# Altium footprint library SAM4N_Xplained_Pro.PcbLib: 42 footprints (part 3 of 3)
Each footprint in its own frame and in the unit in brackets; x right, y up, seen from the top. Pads: shape width x height; smd on the part's side, far side on the other; paste and mask are expansions set on the pad; w line width, h text height; cw(c..) or ccw(c..) is an arc to the next point about the centre after c.
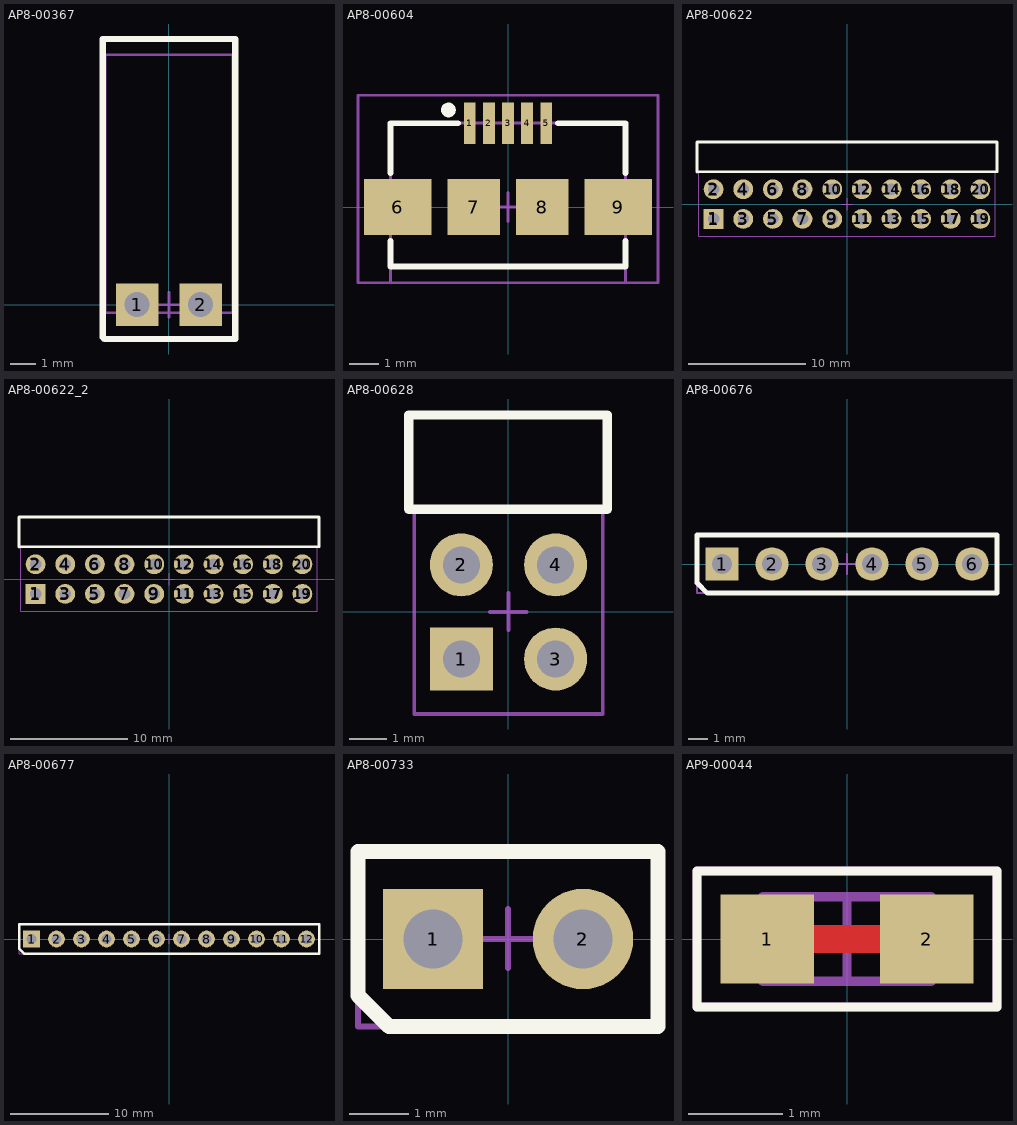
[diagram p2: the footprints below, top view; thin cyan lines are the x and y axes]

## AP8-00367 [mm]
pads (2):
  rect 1.7x1.7 / inner round 1.7 / far side round 1.7 hole 1: 1(-1.27,0) 2(1.27,0)
Top Overlay:
  lines w0.254: -2.645,-1.3 -2.57,-1.375 2.655,-1.375 2.655,10.6 -2.645,10.6 -2.645,-1.3
Top Paste:
  rectangle: -2.12,-0.85 -0.42,0.85
  rectangle: 0.42,-0.85 2.12,0.85
Mechanical 13:
  lines w0.1: -2.545,-0.325 -2.545,9.975 2.555,9.975 2.555,-0.325 -2.545,-0.325
Mechanical 15:
  lines w0.1: -0.495,0 0.505,0 ; 0.005,-0.5 0.005,0.5 ; -2.645,-1.375 2.655,-1.375 2.655,10.6 -2.645,10.6 -2.645,-1.375
3D body "SW3DPS-HEADER 2_54 HORIZONTAL 2X-DEFAULT.STEP": height 2.55, standoff -1.95, extent -2.545,-0.325 2.535,9.995

## AP8-00525 [mm]
3D body "jumper_akspt_z-black.stp": height 2.52, standoff 0.08, extent -2.49,0 2.49,5.97

## AP8-00604 [mm]
pads (9):
  rect 0.4x1.4 smd: 1(-1.3,2.85) 2(-0.65,2.85) 3(0,2.85) 4(0.65,2.85) 5(1.3,2.85)
  rect 2.3x1.9 smd: 6(-3.75,0) 9(3.75,0)
  rect 1.775x1.9 smd: 7(-1.162,0) 8(1.162,0)
Top Overlay:
  circle w0.25: c-2.025,3.3 r0.125
  lines w0.2: -4,-1.15 -4,-2.025 3.99,-2.025 3.99,-1.15 ; -4,1.15 -4,2.85 -1.7,2.85 ; 1.7,2.85 3.99,2.85 3.99,1.15
Mechanical 13:
  lines w0.1: -4,-2.575 3.99,-2.575 3.99,2.85 -4,2.85 -4,-2.575
Mechanical 15:
  lines w0.1: -0.5,0 0.5,0 ; 0,-0.5 0,0.5 ; -5.1,-2.575 5.1,-2.575 5.1,3.8 -5.1,3.8 -5.1,-2.575
3D body "User Library-Micro USB.step": height 2.77, standoff -0.17, extent -3.99,-2.58 3.99,2.85

## AP8-00622 [mm]
pads (40):
  rect 1.7x1.7 / inner round 1.7 / far side rect 1.7x1.7 hole 1: 1(-11.43,-1.27)
  rect 2.1x2.1 on Top Paste: 1(-11.43,-1.27) 2(-11.43,1.27) 3(-8.89,-1.27) 4(-8.89,1.27) 5(-6.35,-1.27) 6(-6.35,1.27) 7(-3.81,-1.27) 8(-3.81,1.27) 9(-1.27,-1.27) 10(-1.27,1.27) 11(1.27,-1.27) 12(1.27,1.27) 13(3.81,-1.27) 14(3.81,1.27) 15(6.35,-1.27) 16(6.35,1.27) 17(8.89,-1.27) 18(8.89,1.27) 19(11.43,-1.27) 20(11.43,1.27)
  round 1.7 hole 1: 2(-11.43,1.27) 3(-8.89,-1.27) 4(-8.89,1.27) 5(-6.35,-1.27) 6(-6.35,1.27) 7(-3.81,-1.27) 8(-3.81,1.27) 9(-1.27,-1.27) 10(-1.27,1.27) 11(1.27,-1.27) 12(1.27,1.27) 13(3.81,-1.27) 14(3.81,1.27) 15(6.35,-1.27) 16(6.35,1.27) 17(8.89,-1.27) 18(8.89,1.27) 19(11.43,-1.27) 20(11.43,1.27)
Top Overlay:
  lines w0.254: -12.852,2.767 -12.852,5.307 ; -12.827,2.77 12.85,2.77 ; -12.827,5.307 12.85,5.307 ; 12.852,2.77 12.852,5.31
Mechanical 15:
  lines w0.1: -12.827,5.334 12.7,5.327 ; -0.508,0 0.508,0 ; 0,-0.508 0,0.508 ; -12.7,-2.75 -12.7,2.75 12.7,2.75 12.7,-2.75 -12.7,-2.75
3D body "pin_header_awl254-da-g20d.stp": height 5, standoff -3, extent -12.7,-1.586 12.7,11.294

## AP8-00622_2 [mm]
pads (40):
  rect 1.7x1.7 / inner round 1.7 / far side rect 1.7x1.7 hole 1: 1(-11.43,-1.27)
  rect 2.1x2.1 on Top Paste: 1(-11.43,-1.27) 2(-11.43,1.27) 3(-8.89,-1.27) 4(-8.89,1.27) 5(-6.35,-1.27) 6(-6.35,1.27) 7(-3.81,-1.27) 8(-3.81,1.27) 9(-1.27,-1.27) 10(-1.27,1.27) 11(1.27,-1.27) 12(1.27,1.27) 13(3.81,-1.27) 14(3.81,1.27) 15(6.35,-1.27) 16(6.35,1.27) 17(8.89,-1.27) 18(8.89,1.27) 19(11.43,-1.27) 20(11.43,1.27)
  round 1.7 hole 1: 2(-11.43,1.27) 3(-8.89,-1.27) 4(-8.89,1.27) 5(-6.35,-1.27) 6(-6.35,1.27) 7(-3.81,-1.27) 8(-3.81,1.27) 9(-1.27,-1.27) 10(-1.27,1.27) 11(1.27,-1.27) 12(1.27,1.27) 13(3.81,-1.27) 14(3.81,1.27) 15(6.35,-1.27) 16(6.35,1.27) 17(8.89,-1.27) 18(8.89,1.27) 19(11.43,-1.27) 20(11.43,1.27)
Top Overlay:
  lines w0.254: -12.852,2.767 -12.852,5.307 ; -12.827,2.77 12.85,2.77 ; -12.827,5.307 12.85,5.307 ; 12.852,2.77 12.852,5.31
Mechanical 15:
  lines w0.1: -12.827,5.334 12.7,5.327 ; -0.508,0 0.508,0 ; 0,-0.508 0,0.508 ; -12.7,-2.75 -12.7,2.75 12.7,2.75 12.7,-2.75 -12.7,-2.75
3D body "pin_header_awl254-da-g20d.stp": height 5, standoff -3, extent -12.7,-1.586 12.7,11.294

## AP8-00628 [mm]
pads (8):
  rect 1.7x1.7 / inner round 1.7 / far side rect 1.7x1.7 hole 1: 1(-1.27,-1.27)
  rect 2.1x2.1 on Top Paste: 1(-1.27,-1.27) 2(-1.27,1.27) 3(1.27,-1.27) 4(1.27,1.27)
  round 1.7 hole 1: 2(-1.27,1.27) 3(1.27,-1.27) 4(1.27,1.27)
Top Overlay:
  lines w0.254: -2.692,2.767 -2.692,5.307 ; -2.667,2.77 2.667,2.77 2.667,5.307 -2.667,5.307
Mechanical 15:
  lines w0.1: -2.667,5.334 2.667,5.334 ; -0.508,0 0.492,0 ; 0,-0.492 0,0.508 ; -2.54,-2.75 -2.54,2.75 2.54,2.75 2.54,-2.75 -2.54,-2.75
3D body "pin_header_awl254-da-g04d.stp": height 5, standoff -3, extent -2.54,-1.524 2.54,11.356

## AP8-00676 [mm]
pads (6):
  rect 1.7x1.7 / inner round 1.7 / far side rect 1.7x1.7 hole 1: 1(-6.35,0)
  round 1.7 hole 1: 2(-3.81,0) 3(-1.27,0) 4(1.27,0) 5(3.81,0) 6(6.35,0)
Top Overlay:
  lines w0.254: -7.62,-0.955 -7.095,-1.48 7.62,-1.48 7.62,1.48 -7.62,1.48 -7.62,-0.955
Mechanical 15:
  lines w0.1: -0.475,0 0.525,0 ; 0,-0.5 0,0.5 ; -7.62,-1.48 -7.62,1.48 7.62,1.48 7.62,-1.48 -7.62,-1.48
3D body "Samtec-TSW-106-23-F-S.step": height 8.38, standoff -2.92, extent -7.62,-1.27 7.62,1.27

## AP8-00677 [mm]
pads (12):
  rect 1.7x1.7 / inner round 1.7 / far side rect 1.7x1.7 hole 1: 1(-13.97,0)
  round 1.7 hole 1: 2(-11.43,0) 3(-8.89,0) 4(-6.35,0) 5(-3.81,0) 6(-1.27,0) 7(1.27,0) 8(3.81,0) 9(6.35,0) 10(8.89,0) 11(11.43,0) 12(13.97,0)
Top Overlay:
  lines w0.254: -15.24,-0.955 -15.24,1.48 15.24,1.48 15.24,-1.48 -14.715,-1.48 -15.24,-0.955
Mechanical 15:
  lines w0.1: -0.475,0 0.525,0 ; 0,-0.5 0,0.5 ; -15.24,-1.48 15.24,-1.48 15.24,1.48 -15.24,1.48 -15.24,-1.48
3D body "Samtec-TSW-112-23-F-S.step": height 8.38, standoff -2.92, extent -15.24,-1.27 15.24,1.27

## AP8-00733 [mm]
pads (4):
  rect 1.7x1.7 / inner round 1.7 / far side rect 1.7x1.7 hole 1: 1(-1.27,0)
  rect 2.1x2.1 on Top Paste: 1(-1.27,0) 2(1.27,0)
  round 1.7 hole 1: 2(1.27,0)
Top Overlay:
  lines w0.254: -2.54,-0.955 -2.015,-1.48 2.54,-1.48 2.54,1.48 -2.54,1.48 -2.54,-0.955
Mechanical 15:
  lines w0.1: -0.475,0 0.525,0 ; 0,-0.492 0,0.508 ; -2.54,-1.48 -2.54,1.48 2.54,1.48 2.54,-1.48 -2.54,-1.48
3D body "Samtec-TSW-102-23-F-S.step": height 8.38, standoff -2.92, extent -2.54,-1.27 2.54,1.27

## AP9-00044 [mm]
pads (2):
  rect 1x0.95 smd paste-1: 1(-0.85,0) 2(0.85,0)
Top Layer:
  rectangle: -0.451,-0.15 0.449,0.15
Top Overlay:
  lines w0.1: -1.6,-0.725 -1.6,0.725 1.6,0.725 1.6,-0.725 -1.6,-0.725
Top Solder:
  rectangle: -0.45,-0.25 0.45,0.26
Mechanical 13:
  lines w0.1: -0.9,-0.45 -0.9,0.45 0.9,0.45 0.9,-0.45 -0.9,-0.45
Mechanical 15:
  lines w0.1: -0.45,0 0.45,0 ; 0,-0.45 0,0.45 ; -1.6,-0.725 -1.6,0.725 1.6,0.725 1.6,-0.725 -1.6,-0.725
3D body "0603 SMD Resistor.step": height 0.3, standoff 0, extent -0.8,-0.4 0.8,0.4